# EAGLE library part AS-ITM-00217 (library tinycircuits)
IC THERMOCOUPLE TO DIGITAL TDFN-10
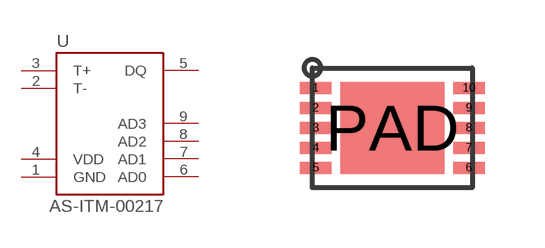
[diagram p92: symbol with the pads of TDFN-10; footprint TDFN-10]

Designator prefix U

## AS-ITM-00217 (PARTNO: AS-ITM-00217; VALUE: MAX31850KATB+)  [TDFN-10]
1  GND
2  T-
3  T+
4  VDD
5  DQ
6  AD0
7  AD1
8  AD2
9  AD3

## Footprint TDFN-10 (pad centres in mm)
smd 0.79 x 0.3: 1 -1.92,1; 2 -1.92,0.5; 3 -1.92,0; 4 -1.92,-0.5; 5 -1.92,-1; 6 1.92,-1; 7 1.92,-0.5; 8 1.92,0; 9 1.92,0.5; 10 1.92,1
smd 2.6 x 2.3: PAD 0,0